# Altium footprint library MCU.PcbLib: 9 footprints
Each footprint in its own frame and in the unit in brackets; x right, y up, seen from the top. Pads: shape width x height; smd on the part's side, far side on the other; paste and mask are expansions set on the pad; w line width, h text height; cw(c..) or ccw(c..) is an arc to the next point about the centre after c.
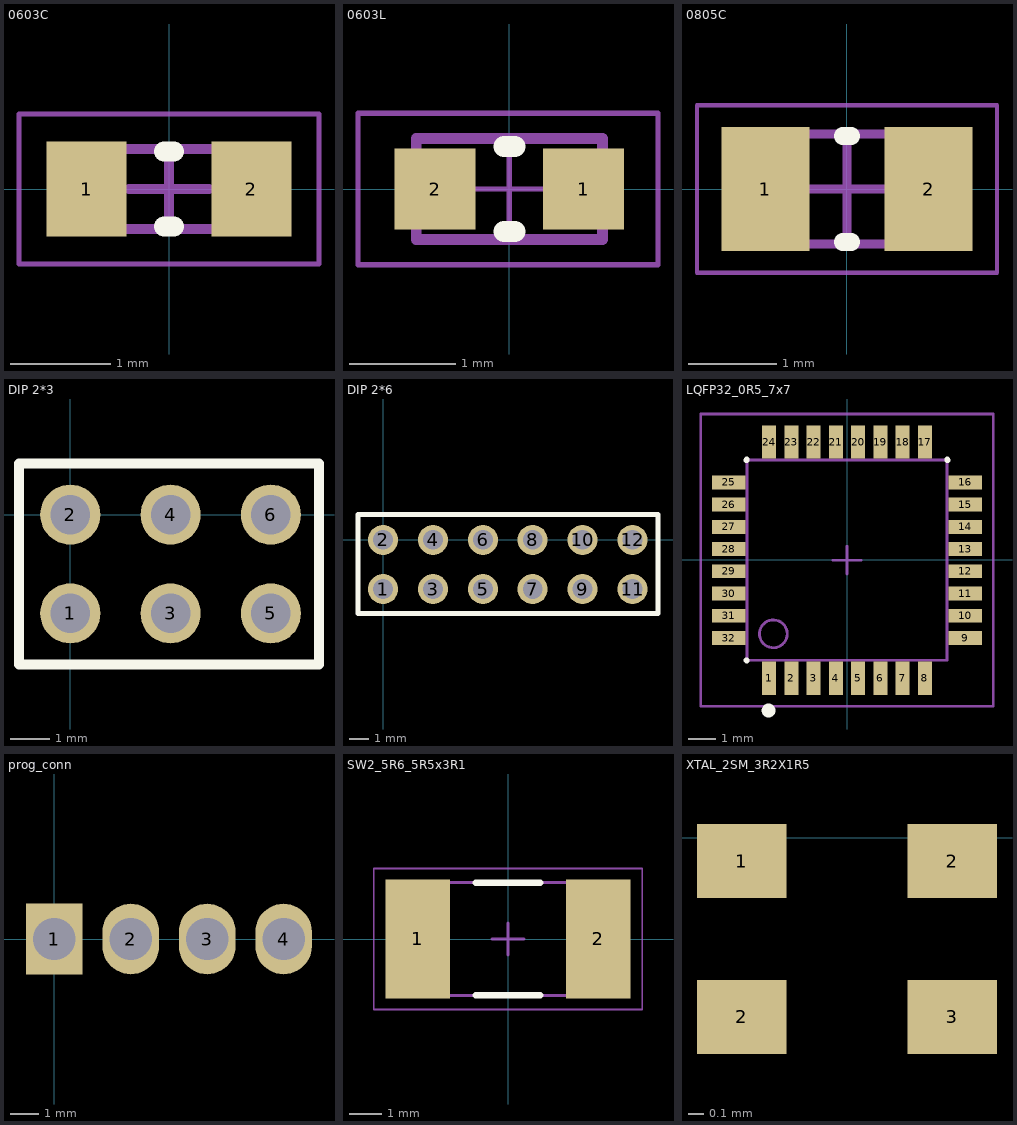
[diagram p0: the footprints below, top view; thin cyan lines are the x and y axes]

## 0603C [mm] "Chip Capacitor, 2-Leads, Body 1.60x0.80mm, IPC Medium Density"
height 0.55
pads (2):
  rect 0.8x0.95 smd: 1(-0.825,0) 2(0.825,0)
Top Overlay:
  lines w0.2: -0.05,-0.375 0.05,-0.375 ; -0.05,0.375 0.05,0.375
Mechanical 13:
  lines w0.1: -0.8,-0.4 -0.8,0.4 0.8,0.4 0.8,-0.4 -0.8,-0.4
Mechanical 15:
  lines w0.05: -1.5,-0.75 -1.5,0.75 1.5,0.75 1.5,-0.75 -1.5,-0.75
  lines w0.1: -0.4,0 0.4,0 ; 0,-0.4 0,0.4
3D body: height 0.55, standoff 0, extent -0.5,-0.4 0.5,0.4
3D body: height 0.55, standoff 0, extent -0.8,-0.4 -0.5,0.4
3D body: height 0.55, standoff 0, extent 0.5,-0.4 0.8,0.4

## 0603L [mil] "Bead 0603L"
pads (2):
  rect 30x30 smd: 1(27.5,0) 2(-27.5,0)
Top Overlay:
  lines w7.87: -1.97,-15.74 1.97,-15.74 -1.97,-15.75 ; -1.97,15.75 1.97,15.75 -1.97,15.75
Mechanical 13:
  lines w3.94: -34.45,-18.7 -34.45,18.7 34.45,18.7 34.45,-18.7 -34.45,-18.7
Mechanical 15:
  lines w1.97: -18.7,0 18.7,0 ; 0,-18.7 0,18.7 ; -56,-28 55,-28 55,28 -56,28 -56,-28
3D body: height 23.62, standoff 0, extent -20.67,-18.7 20.67,18.7
3D body: height 23.62, standoff 0, extent -34.45,-18.7 -20.67,18.7
3D body: height 23.62, standoff 0, extent 20.67,-18.7 34.45,18.7

## 0805C [mm] "Chip Capacitor, 2-Leads, Body 2.00x1.25mm, IPC Medium Density"
height 0.85
pads (2):
  rect 1x1.4 smd: 1(-0.925,0) 2(0.925,0)
Top Overlay:
  lines w0.2: -0.05,-0.6 0.05,-0.6 ; -0.05,0.6 0.05,0.6
Mechanical 13:
  lines w0.1: -1,-0.625 1,-0.625 1,0.625 -1,0.625 -1,-0.625
Mechanical 15:
  lines w0.05: -1.7,-0.95 1.7,-0.95 1.7,0.95 -1.7,0.95 -1.7,-0.95
  lines w0.1: -0.5,0 0.5,0 ; 0,-0.5 0,0.5
3D body: height 0.85, standoff 0, extent 0.5,-0.625 1,0.625
3D body: height 0.85, standoff 0, extent -1,-0.625 -0.5,0.625
3D body: height 0.85, standoff 0, extent -0.5,-0.625 0.5,0.625

## DIP 2*3 [mil]
pads (6):
  round 60 hole 39.37: 1(0,-98.43) 2(0,0) 3(100,-98.43) 4(100,0) 5(200,-98.43) 6(200,0)
Top Overlay:
  lines w10: -51.18,-149.61 -51.18,51.18 248.03,51.18 248.03,-149.61 -51.18,-149.61
3D body "User Library-HEADER, 2X3, 2_54MM X 2_54MM PITCH, VERT, TH.STEP": height 330, standoff -150, extent -49.99,-148.42 250.01,51.58

## DIP 2*6 [mm]
pads (12):
  round 1.524 hole 1: 1(0,-2.5) 2(0,0) 3(2.54,-2.5) 4(2.54,0) 5(5.08,-2.5) 6(5.08,0) 7(7.6,-2.5) 8(7.6,0) 9(10.14,-2.5) 10(10.14,0) 11(12.68,-2.5) 12(12.68,0)
Top Overlay:
  lines w0.254: -1.275,-3.75 -1.275,1.3 13.975,1.3 13.975,-3.75 -1.275,-3.75
3D body "User Library-HEADER, 2X3, 2_54MM X 2_54MM PITCH, VERT, TH.STEP": height 8.38, standoff -3.81, extent -1.26,-3.75 6.36,1.33
3D body "User Library-HEADER, 2X3, 2_54MM X 2_54MM PITCH, VERT, TH.STEP": height 8.38, standoff -3.81, extent 6.36,-3.75 13.98,1.33

## LQFP32_0R5_7x7 [mm] "LQFP32 Recommended ,32 Pin MCU Size,7x7mm, Pitch, 0.8mm"
pads (32):
  rect 0.5x1.2 smd: 1(-2.809,-4.265) 2(-2.009,-4.265) 3(-1.209,-4.265) 4(-0.409,-4.265) 5(0.391,-4.265) 6(1.191,-4.265) 7(1.991,-4.265) 8(2.791,-4.265) 17(2.791,4.235) 18(1.991,4.235) 19(1.191,4.235) 20(0.391,4.235) 21(-0.409,4.235) 22(-1.209,4.235) 23(-2.009,4.235) 24(-2.809,4.235)
  rect 1.2x0.5 smd: 9(4.241,-2.815) 10(4.241,-2.015) 11(4.241,-1.215) 12(4.241,-0.415) 13(4.241,0.385) 14(4.241,1.185) 15(4.241,1.985) 16(4.241,2.785) 25(-4.259,2.785) 26(-4.259,1.985) 27(-4.259,1.185) 28(-4.259,0.385) 29(-4.259,-0.415) 30(-4.259,-1.215) 31(-4.259,-2.015) 32(-4.259,-2.815)
Top Overlay:
  circle w0.25: c-2.828,-5.423 r0.125
  lines w0.2: -3.634,-3.615 -3.609,-3.615 -3.609,-3.64 ; -3.634,3.585 -3.609,3.585 -3.609,3.61 ; 3.591,3.61 3.591,3.585 3.616,3.585
Mechanical 13:
  circle w0.1: c-2.659,-2.665 r0.5
  lines w0.1: -3.609,-3.615 3.591,-3.615 3.591,3.585 -3.609,3.585 -3.609,-3.615
Mechanical 15:
  lines w0.1: -0.509,-0.015 0.491,-0.015 ; -0.009,-0.515 -0.009,0.485 ; -5.266,-5.273 5.249,-5.273 5.249,5.243 -5.266,5.243 -5.266,-5.273
3D body "User Library-LQFP32-2.STEP": height 1.62, standoff -0.01, extent -4.572,-4.572 4.572,4.572

## prog_conn [mm]
pads (4):
  rect 2x2.5 hole 1.5: 1(0,0)
  oval 2x2.5 hole 1.5: 2(2.7,0) 3(5.4,0) 4(8.1,0)

## SW2_5R6_5R5x3R1 [mm] "Subminiature Side Actuated Tact Switch for SMT"
height 1.1
pads (2):
  rect 2x3.7 smd: 1(-2.8,0) 2(2.8,0)
Top Overlay:
  lines w0.2: -1,-1.75 1,-1.75 ; -1,1.75 1,1.75
Mechanical 13:
  lines w0.1: -2.75,-1.75 2.75,-1.75 2.75,1.75 -2.75,1.75 -2.75,-1.75
Mechanical 15:
  lines w0.05: -4.166,-2.184 4.166,-2.184 4.166,2.184 -4.166,2.184 -4.166,-2.184
  lines w0.1: -0.5,0 0.5,0 ; 0,-0.5 0,0.5
3D body: height 1, standoff 0, extent -1.2,-0.9 1.2,0.9
3D body: height 1.65, standoff 0, extent -2.75,-1.75 2.75,1.75
3D body: height 1.65, standoff 0.65, extent -1.25,-2.705 1.25,-1.714

## XTAL_2SM_3R2X1R5 [mm] "CRYSTAL 32.768KHZ 6PF SMD 2 pads"
height 1.1
pads (4):
  rect 0.575x0.475 smd: 1(0.425,-0.15) 2(0.425,-1.15) 2(1.775,-0.15) 3(1.775,-1.15)
3D body "User Library-CX2016DB16000D0GPSC1.STEP": height 0.4, standoff 0, extent 0.1,-1.45 2.1,0.15